# Altium schematic symbol library SamacSys.SchLib: 5 symbols
Pins are listed as number, name and electrical type; pins without a type are passive.

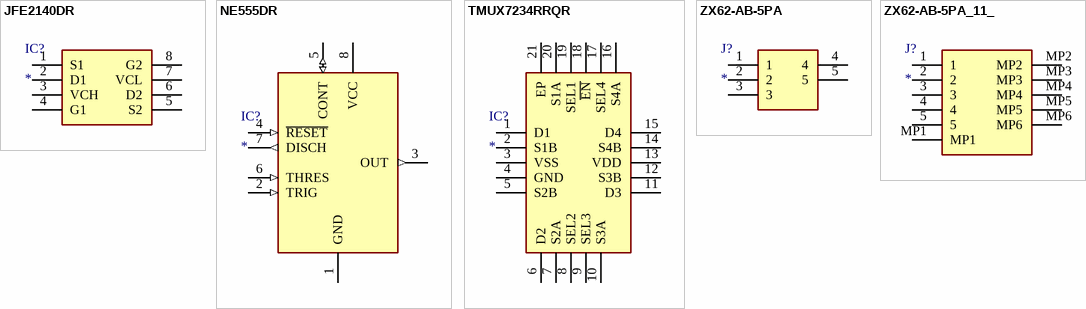
[diagram p0: symbols JFE2140DR to ZX62-AB-5PA_11_]

## JFE2140DR
designator IC?
Integrated Circuit; Manufacturer_Name: Texas Instruments; Manufacturer_Part_Number: JFE2140DR; Description: JFE2140 Ultra-Low Noise; Datasheet Link: https://www.ti.com/lit/ds/symlink/jfe2140.pdf?ts=1633964558921; Height: 1.75mm; Mouser Part Number: 595-JFE2140DR; Mouser Price/Stock: https://www.mouser.co.uk/ProductDetail/Texas-Instruments/JFE2140DR?qs=A6eO%252BMLsxmQVeRIGZCabaw%3D%3D
footprint SOIC127P600X175-8N
pins: 1 S1, 2 D1, 3 VCH, 4 G1, 5 S2, 6 D2, 7 VCL, 8 G2

## NE555DR
designator IC?
Integrated Circuit; Manufacturer_Name: Texas Instruments; Manufacturer_Part_Number: NE555DR; Datasheet Link: http://www.ti.com/lit/ds/symlink/ne555.pdf; Height: 1.75mm; Mouser Part Number: 595-NE555DR; Mouser Price/Stock: https://www.mouser.com/Search/Refine.aspx?Keyword=595-NE555DR; RS Part Number: 1218414; RS Price/Stock: http://uk.rs-online.com/web/p/products/1218414
footprint SOIC127P600X175-8N
pins: 1 GND (power), 2 TRIG (in), 3 OUT (out), 4 ~{RESET} (in), 5 CONT (io), 6 THRES (in), 7 DISCH (out), 8 VCC (power)

## TMUX7234RRQR
designator IC?
Integrated Circuit; Manufacturer_Name: Texas Instruments; Manufacturer_Part_Number: TMUX7234RRQR; Datasheet Link: https://www.ti.com/lit/gpn/tmux7234; Height: 0.8mm; Mouser Part Number: 595-TMUX7234RRQR; Mouser Price/Stock: https://www.mouser.co.uk/ProductDetail/Texas-Instruments/TMUX7234RRQR?qs=pBJMDPsKWf2ane92Zx3aRA%3D%3D
footprint QFN50P400X400X80-21N-D
pins: 1 D1, 2 S1B, 3 VSS, 4 GND, 5 S2B, 6 D2, 7 S2A, 8 SEL2, 9 SEL3, 10 S3A, 11 D3, 12 S3B, 13 VDD, 14 S4B, 15 D4, 16 S4A, 17 SEL4, 18 ~{EN}, 19 SEL1, 20 S1A, 21 EP

## ZX62-AB-5PA
designator J?
Connector; Manufacturer_Name: Hirose; Manufacturer_Part_Number: ZX62-AB-5PA; Datasheet Link: https://componentsearchengine.com/Datasheets/1/ZX62-AB-5PA.pdf; Mouser Part Number: 798-ZX62-AB-5PA; Mouser Price/Stock: https://www.mouser.co.uk/ProductDetail/Hirose-Connector/ZX62-AB-5PA?qs=XQjbzJWzFPVx5JCD0HnggQ%3D%3D
footprint ZX62-AB-5PA
pins: 1, 2, 3, 4, 5

## ZX62-AB-5PA_11_
designator J?
Connector; Manufacturer_Name: Hirose; Manufacturer_Part_Number: ZX62-AB-5PA(11); Datasheet Link: https://datasheet.ciiva.com/4598/e24200011-37133-4598880.pdf?src-supplier=Mouser; Height: 2.8mm; Mouser Part Number: 798-ZX62-AB-5PA11; Mouser Price/Stock: https://www.mouser.co.uk/ProductDetail/Hirose-Connector/ZX62-AB-5PA11?qs=XQjbzJWzFPWctWT4ioBOEg%3D%3D
footprint ZX62AB5PA11
pins: 1, 2, 3, 4, 5, MP1, MP2, MP3, MP4, MP5, MP6